# EAGLE library part HR911105A (library DECADE-libraries20151104)
RJ-45 with LEDs
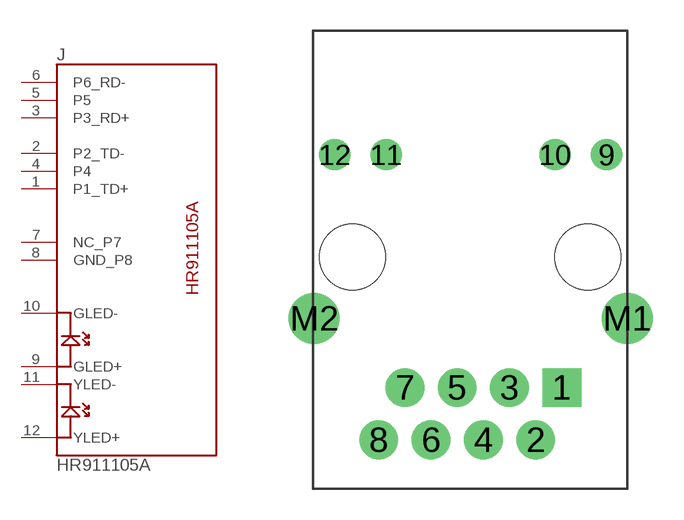
[diagram p66: symbol with the pads of HR911105A; footprint HR911105A]

Designator prefix J

## HR911105A  [HR911105A]
1  P1_TD+
2  P2_TD-
3  P3_RD+
4  P4
5  P5
6  P6_RD-
7  NC_P7
8  GND_P8
9  GLED+
10  GLED-
11  YLED-
12  YLED+

## Footprint HR911105A (pad centres in mm)
drill 1 pad 1.88 square: 1 5.05,2.485
drill 1 pad 1.88: 2 3.78,-0.055; 3 2.51,2.485; 4 1.24,-0.055; 5 -0.03,2.485; 6 -1.3,-0.055; 7 -2.57,2.485; 8 -3.84,-0.055
drill 1 pad 1.27: 9 7.225,13.79; 10 4.725,13.79; 11 -3.475,13.79; 12 -5.975,13.79
drill 1.65 pad 2.184: M1 8.225,5.84; M2 -6.975,5.84
hole 3.2 at 6.32,8.835
hole 3.2 at -5.11,8.835